# Altium integrated library 0039301049.IntLib: 1 symbol
Pins are listed as number, name and electrical type; pins without a type are passive.

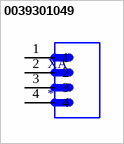
[diagram p0: symbol 0039301049]

## 0039301049
designator XA
Connector Header Through Hole 4 position 0.165 _4.20mm_; MP: 0039301049; MF: Molex; Value: *; Package: None; Price: None; SnapEDA_Link: https://www.snapeda.com/parts/0039301049/Molex/view-part/104320/?ref=snap; Availability: Unavailable
footprint MOLEX_0039301049
pins: 1, 2, 3, 4